# Altium footprint library 12BH611GR.PcbLib: 1 footprints
Each footprint in its own frame and in the unit in brackets; x right, y up, seen from the top. Pads: shape width x height; smd on the part's side, far side on the other; paste and mask are expansions set on the pad; w line width, h text height; cw(c..) or ccw(c..) is an arc to the next point about the centre after c.
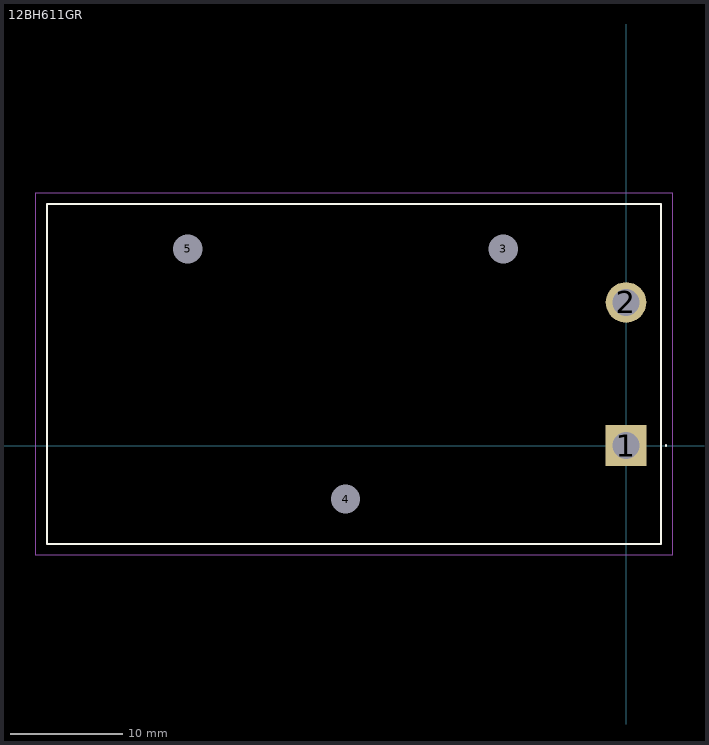
[diagram p0: the footprint, top view; thin cyan lines are the x and y axes]

## 12BH611GR [mm]
pads (5):
  rect 3.6x3.6 hole 2.4: 1(0,0)
  round 3.6 hole 2.4: 2(0,12.7)
  round 1.3 hole 2.6 unplated: 3(-10.9,17.45) 4(-24.9,-4.75) 5(-38.9,17.45)
Top Overlay:
  lines w0.1: 3.5,0 3.5,0 ; 3.5,0 ccw(c3.55,0) 3.6,0 ; 3.5,0 cw(c3.55,0) 3.6,0 ; 3.6,0 3.6,0
  lines w0.2: -51.4,-8.75 -51.4,21.45 3.1,21.45 3.1,-8.75 -51.4,-8.75
Mechanical 15:
  lines w0.1: -51.4,-8.75 3.1,-8.75 3.1,21.45 -51.4,21.45 -51.4,-8.75
Mechanical 20:
  lines w0.1: -52.4,-9.75 4.1,-9.75 4.1,22.45 -52.4,22.45 -52.4,-9.75